# EAGLE library part TPS1100 (library paparazzi)
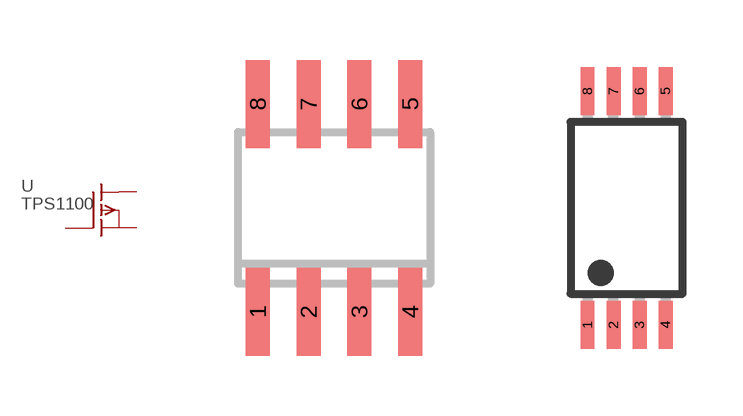
[diagram p39: symbol with the pads of SOIC8; footprints SOIC8, TSSOP8]

Designator prefix -

## TPS1100  [SOIC8]
1  S  pas
2  S1  pas
3  S2  pas
4  G  pas
5  D  pas
6  D1  pas
7  D2  pas
8  D3  pas

## TPS1100PW  [TSSOP8]
Pads as for SOIC8

## Footprint SOIC8 (pad centres in mm)
Small Outline IC
smd 0.6 x 2.2: 1 -1.905,-2.6; 2 -0.635,-2.6; 3 0.635,-2.6; 4 1.905,-2.6; 5 1.905,2.6; 6 0.635,2.6; 7 -0.635,2.6; 8 -1.905,2.6

## Footprint TSSOP8 (pad centres in mm)
Thin Shrink Small Outline Plastic 8
smd 0.35 x 1.2: 1 -0.975,-2.925; 2 -0.325,-2.925; 3 0.325,-2.925; 4 0.975,-2.925; 5 0.975,2.925; 6 0.325,2.925; 7 -0.325,2.925; 8 -0.975,2.925